# Altium schematic symbol library web.skorpio.SchLib: 147 symbols (part 2 of 2)
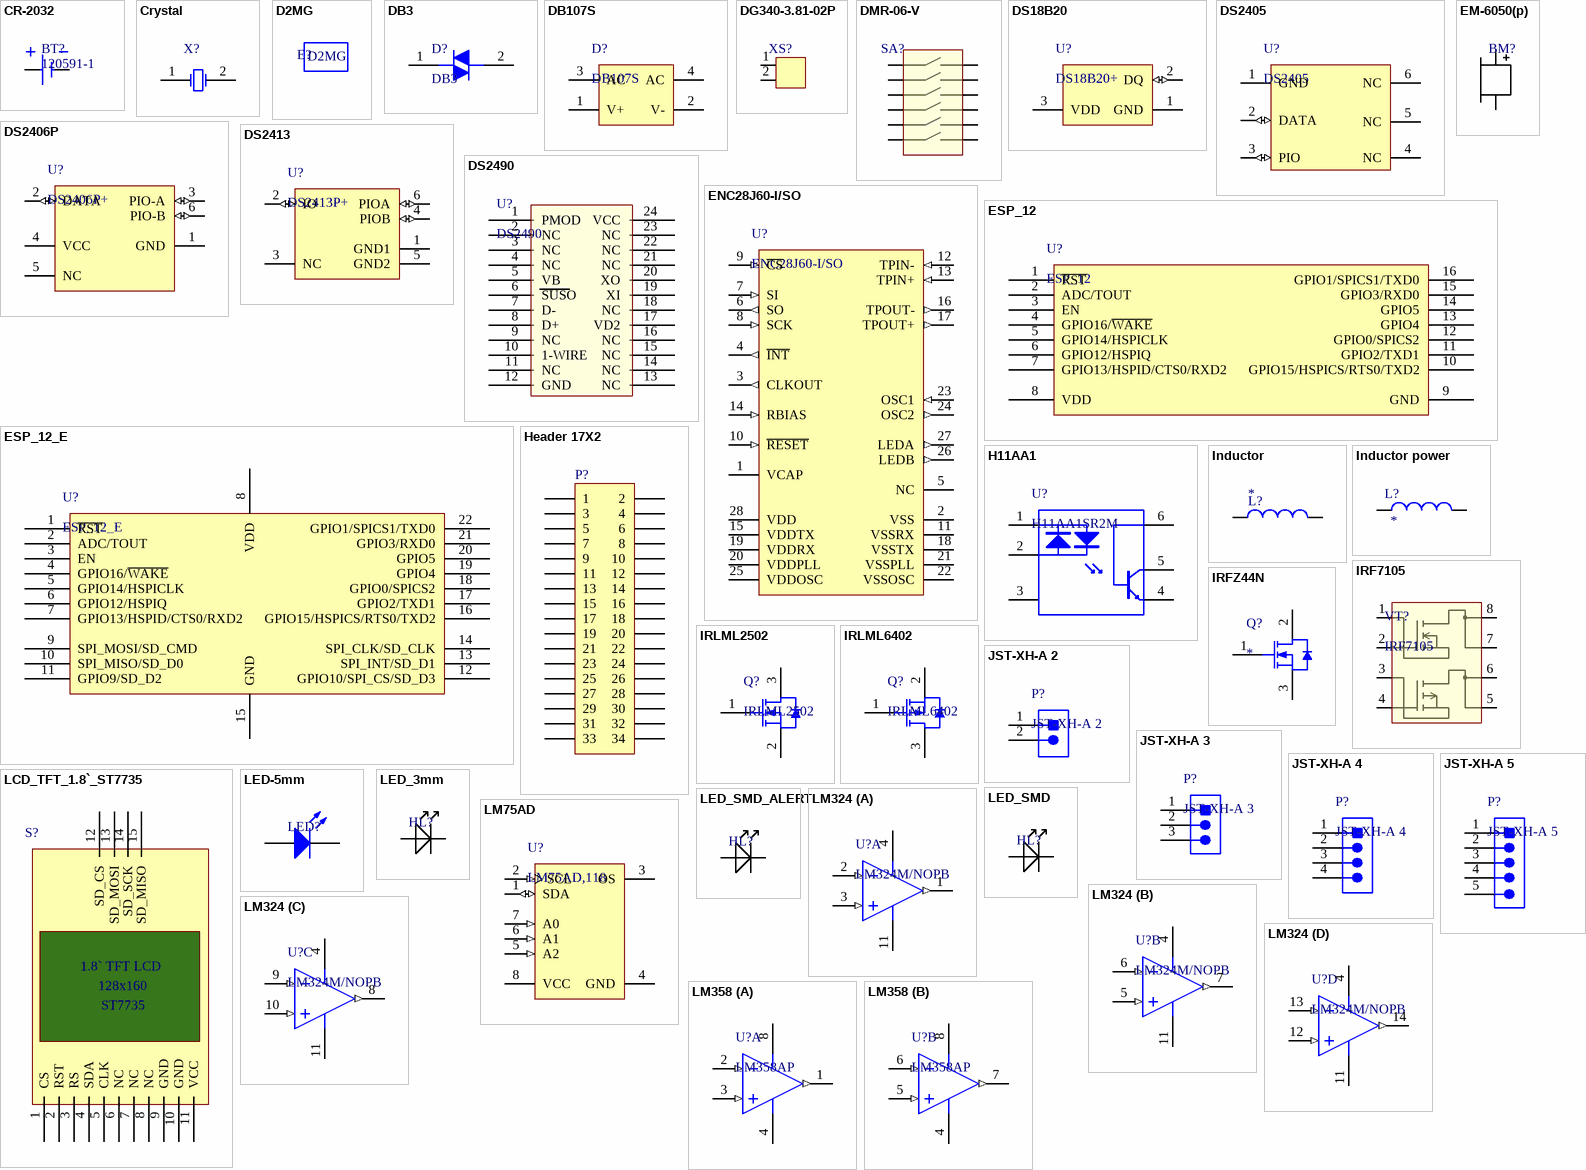
[diagram p5: symbols CR-2032 to LM358]

## LCD_TFT_1.8`_ST7735
designator S?
PartNumber: YMD-12095-G-6V; Manufacturer: Huakai Electronic; Soud Output: >=85 dB; Rated Current: <=32 mA; Resonant Freq: 2300 +/- 300 Hz; Operating Voltage: 4 to 8 V; Rated Voltage: 6 V; PackageDescription: 2-Pin THD, Dia 12 mm, Height 10 mm; Mounting Technology: Through Hole; ComponentLink3URL: å°è£…æ•°æ®ï¼š http://www.hongyan-e.com/web/fmq011.htm; PackageReference: YMD-12095-G-2; RoHS: TRUE; ComponentLink1Description: Manufacturer URL; Operating Temperature: -20 to 45 degC; ComponentLink2Description: Datasheet; ComponentLink1URL: http://www.xhhkdz.com/; ComponentLink3Description: URL Link1; ComponentLink2URL: http://www.xhhkdz.com/product/?103_688.html
footprint ST7735_1.8` TFT LCD
pins: 1 CS, 2 RST, 3 RS, 4 SDA, 5 CLK, 6 NC, 7 NC, 8 NC, 9 GND, 10 GND, 11 VCC, 12 SD_CS, 13 SD_MOSI, 14 SD_SCK, 15 SD_MISO
text: 1.8` TFT LCD; 128x160; ST7735

## LED-5mm
designator LED?
PartNumber: 151053RS03000; Manufacturer: Wuerth Elektronik; Emitting color: Red; PackageReference: Type 5mm; ComponentLink1URL: http://www.we-online.com; ComponentLink2Description: Datasheet; ComponentLink2URL: http://katalog.we-online.de/pbs/datasheet/7448042001.pdfhttp://katalog.we-online.de/pbs/datasheet/7448042001.pdfhttp://katalog.we-online.de/pbs/datasheet/7448042001.pdfhttp://katalog.we-online.de/pbs/datasheet/151053RS03000.pdf; ComponentLink1Description: Manufacturer URL
footprint LED-5mm (THT, LED-5mm, 2pin- Body 5.8mm)
pins: 1 K, 2 A

## LED_3mm
designator HL?  (value not drawn)
3mm red led
footprint LED_RED
pins: 1 anode, 2 cathode

## LED_SMD
designator HL?  (value not drawn)
0805 led
footprint 0805_LED (LED, 2-Leads, Body 2,00x1,20mm, IPC Medium Density)
footprint 1206_Led (Chip LED, 2-Leads, Body 3.2x1.6mm, IPC Medium Density)
footprint 5730_LED (Chip LED, 2-Leads, Body 3.2x1.6mm, IPC Medium Density)
pins: 1 anode, 2 cathode

## LED_SMD_ALERT
designator HL?  (value not drawn)
0805 led
footprint ALERT_0805_LED (LED, 2-Leads, Body 2,00x1,20mm, IPC Medium Density)
pins: 1 anode, 2 cathode

## LM75AD
designator U?, comment LM75AD,118
Digital Temperature Sensor and Thermal Watchdog, 2.8 to 5.5 V Supply, -55 to 125 degC, 8-Pin SOT96-1, RoHS, Tape & Reel; Manufacturer: NXP Semiconductors; Accuracy on-chip (degC): 2@-25 to 100 / 3@-55 to 125; Assignable addresses: 8; Code_IEC: 76000; ComponentLink2URL: http://www.nxp.com/documents/data_sheet/LM75A.pdf; ComponentLink1URL: http://www.nxp.com/; PartNumber: LM75AD,118; DatasheetVersion: Rev. 04; Mounting Technology: Surface Mount; Operating Voltage (VDC): 2.8 to 5.5; ComponentLink2Description: Datasheet; Packing: Tape & Reel; PackageDescription: 8-Pin Plastic Small Outline Package, Body 4.9 x 3.9 mm, Pitch 1.27 mm; Code_JEDEC: MS-012; ComponentLink3URL: http://www.nxp.com/documents/outline_drawing/sot096-1_po.pdf; PackageVersion: 03-02-18, 02/2003; PackageReference: SOT96-1; ComponentLink3Description: Package Specification; ComponentLink1Description: Manufacturer URL
footprint SOT96-1_N (Footprint not found)
footprint SOT96-1_L (Footprint not found)
footprint SOT96-1_M (Footprint not found)
pins: 1 SDA (io) "Digital I/O. I2C-bus serial bidirectional data line; open-drain.", 2 SCL (in) "Digital input. I2C-bus serial clock input.", 3 OS (oc) "Overtemp Shutdown output; open-drain.", 4 GND (power) "Ground. To be connected to the system ground.", 5 A2 (in) "Digital input. User-defined address bit 2.", 6 A1 (in) "Digital input. User-defined address bit 1.", 7 A0 (in) "Digital input. User-defined address bit 0.", 8 VCC (power) "Power supply."

## LM324
designator U?, comment LM324M/NOPB
Low Power Quad Operational Amplifier, 14-pin Narrow SOIC, Pb-Free; Manufacturer: Texas Instruments; PackageTopMarking: NSUZXYTTE#*LM324M; CompType: Amplifiers; PowerWise: N; ComponentLink1Description: Datasheet URL; Code_IPC: SOIC127P600-14; Package Reference: D0014A; PinCount: 14; ComponentLink1URL: http://www.ti.com/general/docs/lit/getliterature.tsp?genericPartNumber=LM324-N&fileType=pdf; Code_JEDEC: MS-012AB; PackageDescription: Molded Package S.O., .150in Wide, 14 Lead; RoHS: Y
footprint SO-14A_L (SOIC, 14-Leads, Body 8.75x4mm, Pitch 1.27mm, IPC High Density)
footprint SO-14A_M (SOIC, 14-Leads, Body 8.75x4mm, Pitch 1.27mm, IPC Low Density)
footprint SO-14A_N (SOIC, 14-Leads, Body 8.75x4mm, Pitch 1.27mm, IPC Medium Density)
pins on every part: 4 V+ (power), 11 GND (power)
part A pins: 1 OUT1 (out), 2 IN1- (in), 3 IN1+ (in)
part B pins: 5 IN2+ (in), 6 IN2- (in), 7 OUT2 (out)
part C pins: 8 OUT3 (out), 9 IN3- (in), 10 IN3+ (in)
part D pins: 12 IN4+ (in), 13 IN4- (in), 14 OUT4 (out)

## LM358
designator U?, comment LM358AP
Dual Operational Amplifier, 3 to 32 V, 0 to 70 degC, 8-Pin PDIP (P), Pb-Free (RoHS), Tube; Case\Package: 0603; Luminous Intensity: 90 mcd; Viewing Angle: 130 degrees; Nominal Vf: 2 V; Lens Style: Diffused; Illumination Colour: Orange; Power Rating: 75 mW; Forward Current: 20 mA; Pins: 2; ComponentLink3Description: Package Specification; Packaging: Tape and Reel; Mount: Surface Mount; PackageReference: P0008A; Radiation Hardening: No; ComponentLink3URL: http://www.ti.com/lit/ml/mpdi001b/mpdi001b.pdf; Case Code (Metric): 1608; ComponentLink2Description: Datasheet; Max Operating Temperature: 85 degC; ComponentLink1Description: Manufacturer URL; RoHSCompliant: true; Width: 0.8 mm; Length: 1.6 mm; DatasheetVersion: SLOS068T, 04/2015; Min Operating Temperature: -55 degC; Height: 1.1 mm; Colour: Orange; ComponentLink2URL: http://www.ti.com/lit/ds/symlink/lm358a.pdf; PackageDescription: 8-Pin Double In-line Package, Body 9.59 x 6.35 mm, Pitch 2.54 mm; PackageVersion: 4040082/E, 04/2010; Forward Voltage: 2 V; Package Quantity: 3000; Case Code (Imperial): 0603; ComponentLink1URL: http://www.ti.com/
footprint DIP8
footprint SOIC8 (SOIC, 8-Leads, Body 4,90x3,90mm, Pitch 1,27mm, IPC Medium Density)
pins on every part: 4 GND (power), 8 VCC (power)
part A pins: 1 1OUT (out), 2 1IN- (in), 3 1IN+ (in)
part B pins: 5 2IN+ (in), 6 2IN- (in), 7 2OUT (out)

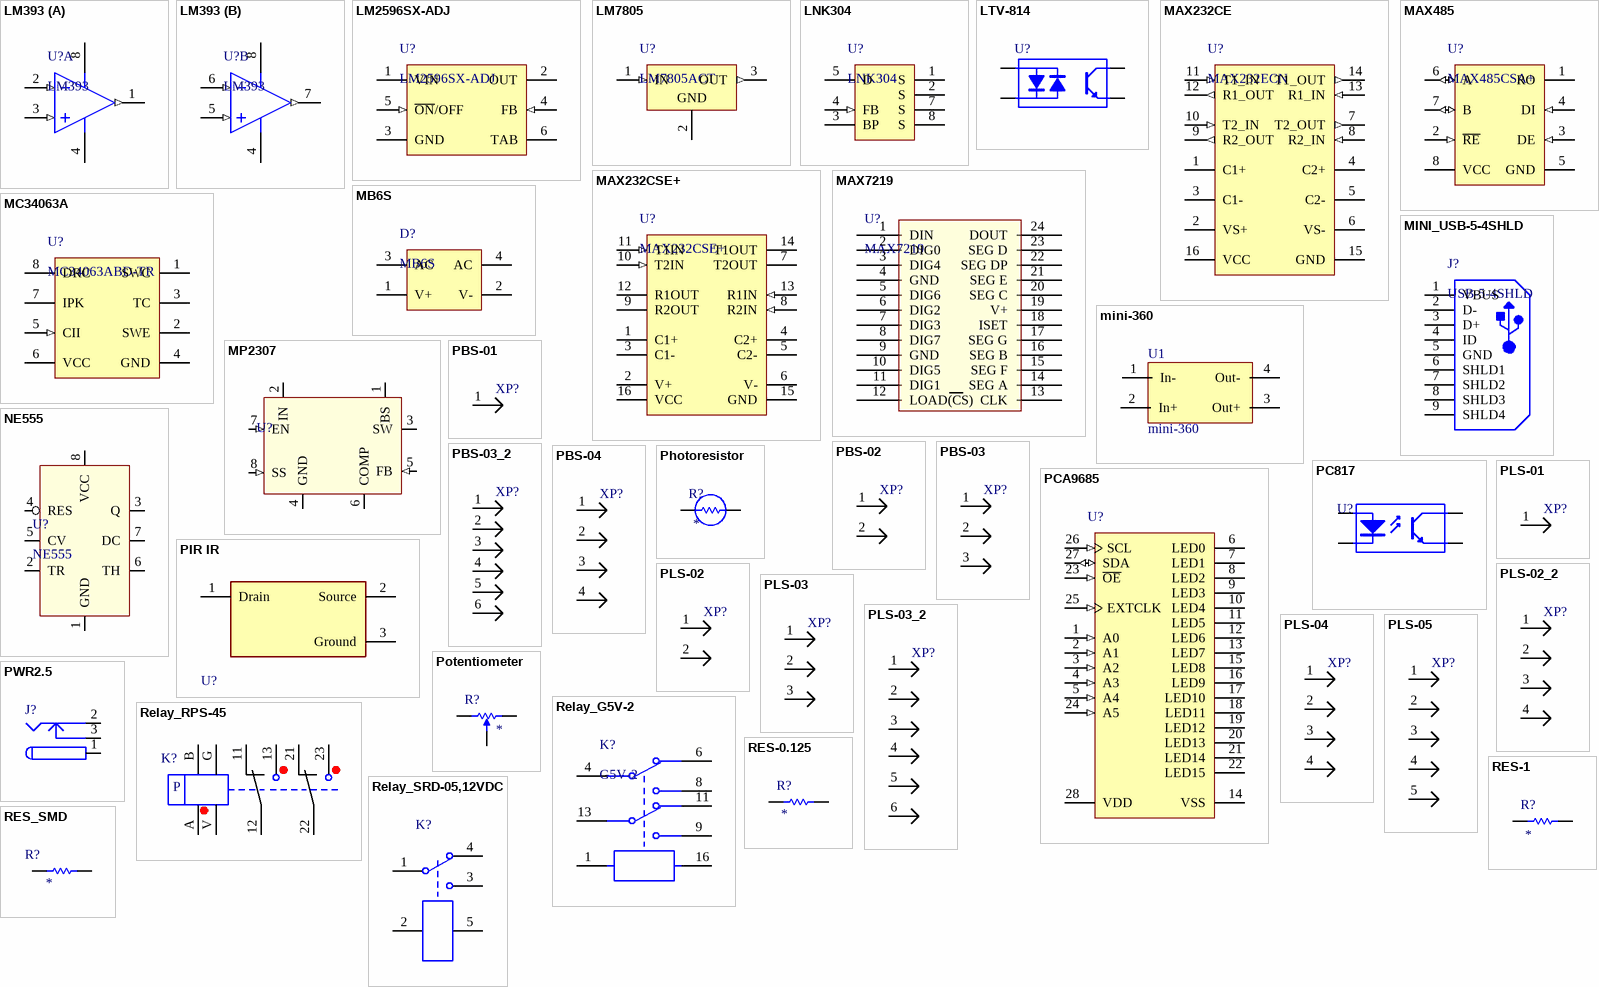
[diagram p3: symbols LM393 to RES_SMD]

## LM393
designator U?
Low Power Low Offset Voltage Dual Comparator, 8-pin Narrow SOIC, Pb-Free; Manufacturer: Texas Instruments; CompType: Amplifiers; PackageTopMarking: NSZXTT*LM*393M; PowerWise: N; PackageDescription: SOIC Narrow, 4.9 x 3.9 x 1.45mm, 8 Lead, 1.27mm Pitch; ComponentLink1URL: http://www.ti.com/general/docs/lit/getliterature.tsp?genericPartNumber=LM393-N&fileType=pdf; ComponentLink1Description: Datasheet URL; PinCount: 8; RoHS: Y; Code_IPC: SOIC127P600-8; Package Reference: D0008A; Code_JEDEC: MS-012-AA
footprint SO-8_N (SOIC, 8-Leads, Body 4.9x3.9mm, Pitch 1.27mm, IPC Medium Density)
footprint SO-8_L (SOIC, 8-Leads, Body 4.9x3.9mm, Pitch 1.27mm, IPC High Density)
footprint SO-8_M (SOIC, 8-Leads, Body 4.9x3.9mm, Pitch 1.27mm, IPC Low Density)
footprint DIP8
pins on every part: 4 GND (power), 8 V+ (power)
part A pins: 1 OUTA (out), 2 INA- (in), 3 INA+ (in)
part B pins: 5 INB+ (in), 6 INB- (in), 7 OUTB (out)

## LM2596SX-ADJ
designator U?
SIMPLE SWITCHER® Power Converter 150 KHz 3A Step-Down Voltage Regulator, 5-pin TO-263; Manufacturer: Texas Instruments; PackageTopMarking: NSUZXYTTE#*LM2596S*-ADJ P+; PowerWise: N; PackageDescription: TO-263, Molded, .400 x .390 x .180in, 5 Lead, .067in Pitch, Surface Mount; RoHS: N; Code_JEDEC: MO-169-AB; CompType: Switcher; ComponentLink1Description: Datasheet URL; PackageReference: KTT0005B; PinCount: 5; ComponentLink1URL: http://www.ti.com/general/docs/lit/getliterature.tsp?genericPartNumber=LM2596&fileType=pdf
footprint KTT0005B_N (DPAK, 5-Leads, Body 10.65x9.65mm, Pitch 1.7mm, IPC Medium Density)
footprint KTT0005B_M (DPAK, 5-Leads, Body 10.65x9.65mm, Pitch 1.7mm, IPC Low Density)
footprint KTT0005B_L (DPAK, 5-Leads, Body 10.65x9.65mm, Pitch 1.7mm, IPC High Density)
pins: 1 VIN (power), 2 OUT (power), 3 GND (power), 4 FB (in), 5 ~{ON}/OFF (in), 6 TAB (power)

## LM7805
designator U?, comment LM7805ACT
Positive Voltage Regulator, 5 V, 1 A, 0 to 125 degC, 3-Pin TO-220, RoHS, Tube; Manufacturer: Fairchild; Number of Outputs: 1; Typical Dropout Voltage @ Current: 2V@1A; Output Type: Fixed; Output Voltage: 5V; Quiescent Current: 6mA; Dropout Voltage Measurement Current: 1A; Line Regulation: 50mV; Maximum Input Voltage: 35V; Regulator Function: Linear; Load Regulation: 100mV; Package Type: TO-220; Mounting Type: ThroughHole; Height: 16.51mm; Maximum Operating Temperature: +125degC; Datasheet Version: Rev. 1.0.1, 05/2006; Package Reference: TO-220; Minimum Operating Temperature: 0degC; Manufacturer URL: https://www.fairchildsemi.com/; Package URL: https://www.fairchildsemi.com/package-drawings/TO/TO220B03.pdf; Length: 10.67mm; Series: LM78xx; Dimensions: 10.67x4.83x16.51mm; Polarity: Positive; Maximum Output Current: 1A; Pin Count: 3; Width: 4.83mm; Package Description: 3-Pin Through Hole Device, Body 10 x 4.5 mm, Pitch 2.54 mm; Datasheet URL: https://datasheet.ciiva.com/5816/1359194-5816420.pdf
footprint TO-220 (FM, 3-Leads, Body 10.2x4.7mm, Pitch 2.54mm)
footprint TO252-3 (D-PAK, 3-Leads, Body 6.20x6.60mm, Pitch 2.28mm)
pins: 1 IN (in), 2 GND (power), 3 OUT (out)

## LNK304
designator U?
LinkSwitch(R)-TN Family Lowest Component Count, Energy-Efficient Off-Line Switcher IC, 700 V, 66 KHz, 7-Pin DIP, RoHS, Tube; Manufacturer: Power Integrations; Power (Watts): 12mW; For Use With: 596-1197-ND / -KITREFDESIGN1.2WPSTNFAMILY; Other Names: 596-1023-5; Online Catalog: ACDCConverters,OfflineSwitchers; Output Isolation: Non-Isolated; Reference Design Library: DAK-48A:1.44W,12V@120mA,85~265VAC / RDK-138:1.2W,12V@80mA,5V@50mA,85~265VAC / DER-058:12V@250mA,57~580VACin / DER-048:12V@100mA/15V@25mA,85~265VACin / DER-231:12V@110mA,85~265VACin / DER-045:12V@150mA,85~265VACin; Frequency Range: 62kHz~70kHz; Voltage - Breakdown: 700V; Manufacturer URL: https://www.power.com/; Supplier Device Package: DIP-8B; Series: LinkSwitch-TN; Voltage - Output: -; Packaging: Tube; Voltage - Input: -; Category: IntegratedCircuits(ICs); Package / Case: 8-DIP(0.300",7.62mm),7Leads; Datasheet Version: Rev. H, 12/2006; Family: PMIC-ACDCConverters,OfflineSwitchers; Dynamic Catalog: ACDCConverters,OfflineSwitchers; Standard Package: 50; Datasheet URL: https://datasheet.ciiva.com/16982/0900766b80b7c715-16982632.pdf; Operating Temperature: -40degC~150degC
footprint LNK304PN (DIP, 7-Leads, Body 6.6x9.85mm, Pitch 2.54mm)
footprint LNK304PG (SMD, 7-Leads, Body 9.575x6.35mm)
pins: 1 S, 2 S, 3 BP, 4 FB (in), 5 D, 7 S, 8 S

## LTV-814
designator U?
4-Pin Phototransistor Optocoupler; Published: 24-Mar-1999; LatestRevisionDate: 04-Mar-2005; LatestRevisionNote: Sch pins 3 & 4 Swapped.; DatasheetVersion: Nov-2003; PackageReference: DIP-4; Publisher: Altium Limited
footprint DIP-4 - point (DIP; 4 Leads; Row Spacing 7.62 mm; Pitch 2.54 mm)
pins: 1 A "Anode", 2 K "Cathode", 3 E "Emitter", 4 C "Collector"

## MAX232CE
designator U?, comment MAX232ECN
Dual RS-232 Driver / Receiver with IEC61000-4-2 Protection, 0 to 70 degC, 16-Pin PDIP (N),  Pb-Free (RoHS); Drivers Per Package: 2; Supply Voltage(s)(V): 5; Single Supply: TRUE; ESD HBM(kV): +/-15; ICC(Max)(mA): 10; PackageVersion: revE, Dec-2002; ComponentLink3URL: http://www.ti.com/litv/pdf/mpdi002c; ComponentLink3Description: Package Specification; DatasheetVersion: SLLS723B; Receivers Per Package: 2; ComponentLink1Description: Manufacturer URL; RS-232: TRUE; PackageReference: N16; PackageDescription: 16-Pin Plastic Dual-In-Line Package, Row Spacing 7.62 mm, Pitch 2.54 mm; ComponentLink2Description: Datasheet; ComponentLink2URL: http://www.ti.com/general/docs/lit/getliterature.tsp?genericPartNumber=MAX232E&fileType=pdf; SubFamily: RS-232; ComponentLink1URL: www.ti.com; IEC-61000-4-2 SUPPORT: TRUE
footprint DIP16
footprint SO-16_M (SOIC, 16-Leads, Body 9.9x3.9mm, Pitch 1.27mm, IPC Low Density)
pins: 1 C1+, 2 VS+ (power), 3 C1-, 4 C2+, 5 C2-, 6 VS- (power), 7 T2_OUT (out), 8 R2_IN (in), 9 R2_OUT (out), 10 T2_IN (in), 11 T1_IN (in), 12 R1_OUT (out), 13 R1_IN (in), 14 T1_OUT (out), 15 GND (power), 16 VCC (power)

## MAX232CSE+
designator U?
Multichannel RS-232 Driver / Receiver, 5 V, 0 to 70 degC, 16-Pin SOIC (S16+3), RoHS, Tube; Power Rating: 100 mW; Case\Package: 0603; Voltage Rating: 75 V; Tolerance: 1%; Resistance: 22 Ohm; Radiation Hardening: No; PackageDescription: 16-Pin Small Outline Integrated Circuit, Body 9.9 x 3.9 mm, Pitch 1.27 mm; Weight: 7.1E-05 oz; REACH SVHC: Yes; ComponentLink2URL: https://datasheets.maximintegrated.com/en/ds/MAX220-MAX249.pdf; ComponentLink2Description: Datasheet; Case Code (Imperial): 0603; Package Quantity: 5000; Min Operating Temperature: -55 degC; Case Code (Metric): 1608; Code_JEDEC: MS012; ComponentLink3URL: http://pdfserv.maximintegrated.com/package_dwgs/21-0041.PDF; Max Operating Temperature: 155 degC; Height: 0.45 mm; PackageVersion: Rev. G, 01/2016; PackageReference: S16+5; DatasheetVersion: Rev. 17, 01/2015; ComponentLink1URL: http://www.maximintegrated.com/; Length: 1.6 mm; Mount: Surface Mount; ComponentLink1Description: Manufacturer URL; RoHSCompliant: true; Packaging: Tape and Reel; ComponentLink3Description: Package Specification; Width: 0.8 mm; Pins: 2
footprint SO-16_L (SOIC, 16-Leads, Body 9.9x3.9mm, Pitch 1.27mm, IPC High Density)
footprint SO-16_M (SOIC, 16-Leads, Body 9.9x3.9mm, Pitch 1.27mm, IPC Low Density)
footprint SO-16_N (SOIC, 16-Leads, Body 9.9x3.9mm, Pitch 1.27mm, IPC Medium Density)
pins: 1 C1+, 2 V+ (power), 3 C1-, 4 C2+, 5 C2-, 6 V- (power), 7 T2OUT (hiz), 8 R2IN (in), 9 R2OUT (hiz), 10 T2IN (in), 11 T1IN (in), 12 R1OUT (hiz), 13 R1IN (in), 14 T1OUT (hiz), 15 GND (power), 16 VCC (power)

## MAX485
designator U?, comment MAX485CSA+
Low-Power, Slew-Rate-Limited RS-485/RS-422 Transceiver, 4.75 to 5.25 V, 0 to 70 degC, 8-Pin SOIC, RoHS, Tape and Reel; Manufacturer: Maxim; No. of Receivers: 1; Transceiver Type: Differential; Supply Voltage Min: 4.75V; IC Generic Number: 485; IC Temperature Range: Commercial; No. of Pins: 8; Supply Voltage Range: 4.75Vto5.25V; Interface: RS-422/RS-485; Supply Voltage Max: 5.25V; Data Rate: 2.5Mbps; Line / Bus Driver / Receiver / Transceiver Type: CMOSDifferential; Supply Current: 500µA; Interface Type: RS422,RS485; Device Type: Transceiver; Manufacturer URL: http://www.maximintegrated.com/; Operating Temperature Range: 0degCto+70degC; Package / Case: SOIC; Digital IC Case Style: SOIC; Operating Temperature Max: 70degC; Device Marking: MAX485CSA+; Driver Case Style: SOIC; Datasheet Version: Rev. 8, 10/2003; Operating Temperature Min: 0degC; Datasheet URL: https://datasheet.ciiva.com/29306/170071-da-01-en-ic-max485csa-so8-29306144.pdf; Base Number: 485; No. of Drivers: 1; Logic Function Number: 485
footprint SOT96-1_L (SOIC, 8-Leads, Body 5x4mm, Pitch 1.27mm, IPC High Density)
footprint SOT96-1_M (SOIC, 8-Leads, Body 5x4mm, Pitch 1.27mm, IPC Low Density)
footprint SOT96-1_N (SOIC, 8-Leads, Body 5x4mm, Pitch 1.27mm, IPC Medium Density)
footprint DIP8
pins: 1 RO (hiz) "Receiver Output", 2 ~{RE} (in) "Receiver Output Enable", 3 DE (in) "Driver Output Enable", 4 DI (in) "Driver Input", 5 GND (power) "Ground", 6 A (io) "Noninverting Receiver Input and Noninverting Driver Output", 7 B (io) "Inverting Receiver Input and Inverting Driver Output", 8 VCC (power) "Positive Supply"

## MAX7219
designator U?
MAX7219, SO-24, DIP-24
footprint SOIC-24/300 (SOIC, 24-Leads, Pitch 1,27mm)
footprint DIP24
pins: 1 DIN, 2 DIG0, 3 DIG4, 4 GND, 5 DIG6, 6 DIG2, 7 DIG3, 8 DIG7, 9 GND, 10 DIG5, 11 DIG1, 12 LOAD(CS), 13 CLK, 14 SEG A, 15 SEG F, 16 SEG B, 17 SEG G, 18 ISET, 19 V+, 20 SEG C, 21 SEG E, 22 SEG DP, 23 SEG D, 24 DOUT

## MB6S
designator D?
Bridge Rectifier, 0.5 A, 600V -55 to 150 degC, 4-Pin SMD, RoHS, Tape and Reel; Manufacturer: FairchildSemiconductor; Peak Average Forward Current: 0.5@Ta=50CA; Peak Reverse Current: 5uA; Peak Forward Voltage: 1V; Bridge Type: SinglePhase; Configuration: Single; Rad Hard: No; Manufacturer URL: https://www.fairchildsemi.com/; Category: BridgeRectifier; Packaging: Tape&Reel; Operating Temperature: -55to150°C; Package Description: 4-Pin Surface Mount Device, Body 4.725 x 3.9 mm, Pitch 2.54 mm; Peak Reverse Repetitive Voltage: 600V; Package Reference: MBXS; Datasheet URL: http://www.fairchildsemi.com/datasheets/MB/MB1S.pdf; Mounting: SurfaceMount; Datasheet Version: Rev. 1.2.3, 04/2014; Mounting Technology: SurfaceMount; Package: 4SOICN
footprint MB6S (SMD, 4-Leads, Body 4.725x3.9mm, Pitch 2.54mm)
pins: 1 V+ (power), 2 V- (power), 3 AC (power), 4 AC (power)

## MC34063A
designator U?, comment MC34063ABD-TR
DC/DC converter control circuit, 8-Pin SO, Tape and Reel; PackageReference: SO8; DatasheetVersion: Nov-2007; PackageDescription: 8-Pin Small Outline Integrated Circuit 1.27 mm Pitch; ComponentLink3URL: http://www.st.com/internet/com/TECHNICAL_RESOURCES/TECHNICAL_LITERATURE/PACKAGE_INFORMATION/CD00004680.pdf; ComponentLink2Description: Datasheet; PackageVersion: Dec-2002; ComponentLink1URL: http://www.st.com; ComponentLink2URL: http://www.st.com/internet/com/TECHNICAL_RESOURCES/TECHNICAL_LITERATURE/DATASHEET/CD00001232.pdf; ComponentLink1Description: Manufacturer URL; ComponentLink3Description: Package Specification; Code_IPC: SOIC127P600-8; Code_JEDEC: MS-012-AA
footprint SO-8_L (SOIC, 8-Leads, Body 4.9x3.9mm, Pitch 1.27mm, IPC High Density)
footprint SO-8_N (SOIC, 8-Leads, Body 4.9x3.9mm, Pitch 1.27mm, IPC Medium Density)
footprint SO-8_M (SOIC, 8-Leads, Body 4.9x3.9mm, Pitch 1.27mm, IPC Low Density)
pins: 1 SWC (oc), 2 SWE (oe), 3 TC, 4 GND (power), 5 CII (in), 6 VCC (power), 7 IPK, 8 DRC (oc)

## mini-360
designator U1
Step-down DC-DC 3A
footprint Mini-360 (4-pin, Body 18x12mm)
pins: 1 In- (power), 2 In+ (power), 3 Out+ (power), 4 Out- (power)

## MINI_USB-5-4SHLD
designator J?, comment USB-5-4SHLD
footprint MINI-USB_2.0 (SMD, 5-Leads, Body 9.6x9.25mm, Pitch 0.8mm)
pins: 1 VBUS (power), 2 D-, 3 D+, 4 ID, 5 GND (power), 6 SHLD1, 7 SHLD2, 8 SHLD3, 9 SHLD4

## MP2307
designator U?
Monolithic synchronous buck regulator
footprint SOIC8N
pins: 1 BS "Gate Drive Boost Input", 2 IN "Power Input", 3 SW "Power Switching Output", 4 GND "Ground", 5 FB (in) "Feedback Input", 6 COMP "Compensation Node", 7 EN (in) "Enable Input", 8 SS (in) "Soft-Start Control Input"

## NE555
designator U?
NE555, DIP-8
footprint DIP8
footprint SOIC8 (SOIC, 8-Leads, Body 4,90x3,90mm, Pitch 1,27mm, IPC Medium Density)
pins: 1 GND, 2 TR, 3 Q, 4 RES, 5 CV, 6 TH, 7 DC, 8 VCC

## PBS-01
designator XP?  (value not drawn)
footprint PBS-01 - RIGHT
footprint PBS-01
pins: 1

## PBS-02
designator XP?  (value not drawn)
footprint PBS-02
footprint PBS-02 - RIGHT
pins: 1, 2

## PBS-03
designator XP?  (value not drawn)
footprint PBS-03
footprint PBS-03 - RIGHT
pins: 1, 2, 3

## PBS-03_2
designator XP?  (value not drawn)
footprint PBS-03_2
pins: 1, 2, 3, 4, 5, 6

## PBS-04
designator XP?  (value not drawn)
footprint PBS-04
footprint PBS-04 - right
pins: 1, 2, 3, 4

## PC817
designator U?
4-Pin Phototransistor Optocoupler; Published: 24-Mar-1999; LatestRevisionDate: 04-Mar-2005; LatestRevisionNote: Sch pins 3 & 4 Swapped.; DatasheetVersion: Nov-2003; PackageReference: DIP-4; Publisher: Altium Limited
footprint DIP-4 - point (DIP; 4 Leads; Row Spacing 7.62 mm; Pitch 2.54 mm)
footprint DIP-4 - SMT (DIP; 4 Leads; Row Spacing 7.62 mm; Pitch 2.54 mm)
pins: 1 A "Anode", 2 K "Cathode", 3 E "Emitter", 4 C "Collector"

## PCA9685
designator U?, comment PCA9685PW,112  (value not drawn)
16-Channel, 12-Bit PWM Fm+ I2C-Bus LED Controller, 2.3 to 5.5 V, -40 to 85 degC, 28-Pin TSSOP (SOT361-1), RoHS, Tape and Reel; ComponentLink1Description: Manufacturer URL; ComponentLink2URL: http://www.nxp.com/documents/data_sheet/PCA9685.pdf; ComponentLink1URL: http://www.nxp.com/; ComponentLink3Description: Package Specification; ComponentLink2Description: Datasheet; ComponentLink3URL: http://www.nxp.com/documents/outline_drawing/sot361-1_po.pdf
footprint SOT361-1_V (SOP, 28-Leads, Body 9.7x4.4mm, Pitch 0.65mm, NXP Recommended)
pins: 1 A0 (in) "address input 0", 2 A1 (in) "address input 1", 3 A2 (in) "address input 2", 4 A3 (in) "address input 3", 5 A4 (in) "address input 4", 6 LED0 (hiz) "LED driver 0", 7 LED1 (hiz) "LED driver 1", 8 LED2 (hiz) "LED driver 2", 9 LED3 (hiz) "LED driver 3", 10 LED4 (hiz) "LED driver 4", 11 LED5 (hiz) "LED driver 5", 12 LED6 (hiz) "LED driver 6", 13 LED7 (hiz) "LED driver 7", 14 VSS (power) "supply ground", 15 LED8 (hiz) "LED driver 8", 16 LED9 (hiz) "LED driver 9", 17 LED10 (hiz) "LED driver 10", 18 LED11 (hiz) "LED driver 11", 19 LED12 (hiz) "LED driver 12", 20 LED13 (hiz) "LED driver 13", 21 LED14 (hiz) "LED driver 14", 22 LED15 (hiz) "LED driver 15", 23 ~{OE} (in) "active LOW output enable", 24 A5 (in) "address input 5", 25 EXTCLK (in) "external clock input", 26 SCL (in) "serial clock line", 27 SDA (io) "serial data line", 28 VDD (power) "supply voltage"

## Photoresistor
designator R?
RES-1; Val: *
footprint Photoresistor
pins: 1, 2

## PIR IR
designator U?
MOTION SENSOR; Manufacturer Part Number: IRA-S210ST01; Manufacturer: Murata; Min Supply Voltage: 2V; Max Supply Voltage: 15V; Device Class L3: Photoelectric Sensors; Package: IRA-S210ST01; Temperature Range Low: -40°C; Temperature Range High: +70°C; ComponentLink2Description: Datasheet; Category: IC; ComponentLink2URL: https://www.murata.com/en-us/api/pdfdownloadapi?cate=luInfraredSensors&partno=IRA-S210ST01; Digikey Description: MOTION SENSOR; Octopart: https://octopart.com/ira-s210st01-murata-30987376; Temperature: -40°C to +70°C; Lead Free: Yes; Automotive: No; RoHS: TRUE; Device Class L1: Sensors; Height: 4.9mm; Device Class L2: Optical Sensors
footprint PIR_IR
pins: 1 Drain, 2 Source, 3 Ground (power)

## PLS-01
designator XP?  (value not drawn)
footprint PLS-01
footprint PLS-01 - RIGHT
pins: 1

## PLS-02
designator XP?  (value not drawn)
footprint PLS-02
footprint PLS-02 - RIGHT
pins: 1, 2

## PLS-02_2
designator XP?  (value not drawn)
footprint PLS-02_2
pins: 1, 2, 3, 4

## PLS-03
designator XP?  (value not drawn)
footprint PLS-03
footprint PLS-03 - RIGHT
pins: 1, 2, 3

## PLS-03_2
designator XP?  (value not drawn)
footprint PLS-03_2
pins: 1, 2, 3, 4, 5, 6

## PLS-04
designator XP?  (value not drawn)
footprint PLS-04
footprint PLS-04 - right
pins: 1, 2, 3, 4

## PLS-05
designator XP?  (value not drawn)
footprint PLS-05
footprint PLS-05 - right
pins: 1, 2, 3, 4, 5

## Potentiometer
designator R?, comment 3296W  (value not drawn)
3296 - 3/8 ” Square Trimpot(R) Trimming Potentiometer,, +/- 10%, 0.5 W, -55 to 125 degC, 3-Pin THD, RoHS, Tube; Value: *
footprint BOUR-3296W (THD, 3-Leads, Body 9.53x4.83mm, Pitch 2.54mm)
pins: 1, 2, 3

## PWR2.5
designator J?
Low Voltage Power Supply Connector; Published: 17-Dec-2003; DatasheetDocument: 09-May-2002; Publisher: Altium Limited; ComponentLink1Description: Manufacturer Link; ComponentLink1URL: http://domino.kycon.com/internet/Products.html
footprint KLD-0202 (DC Power Jack, 2.5mm, KLD Series, PCB Mount)
pins: 1 (power), 1A (power), 1B (power), 2 (power), 2A (power), 2B (power), 3 (power), 3A (power), 3B (power)

## Relay_G5V-2
designator K?, comment G5V-2
General-Purpose, Low-Cost, Two-Pole Relay for Signal Circult, 5 VDC, -25 to 70 degC, 8-Pin THD, RoHS, Tube; Manufacturer: Omron Electronic Components; Seal: Sealed; Dropout Volt: 0.25VDC; Product Depth (mm): 10.1mm; Contact Form: 2FormC; Rad Hardened: No; Product Length (mm): 20.5mm; DELETED: Compliant; Voltage Rating (VAC): 125V; Contact Current Rating: 1A; Product Height (mm): 11.5mm; Maximum Power Rating: 24W/62.5VA; Pick-up Voltage (Max): 2.75VDC; Relay Construction: Non-Latching; Contact Arrangement: DPDT; Coil Resistance: 166.7ohm; Operate Time: 7ms; Coil Current: 30mA; Coil Voltage DC: 5V; Contact Material: Ag/AuClad; Operating Temp Range: -25Cto70C; Datasheet URL: https://datasheet.ciiva.com/26921/getdatasheetpartid-762786-26921067.pdf; Dropout Volt (Min): 0.25VDC; Pin Count: 8; Termination Style: PCPin; Manufacturer URL: http://www.omron.com/; Package Reference: G5V-2; Coil Suppression Diode: No; Mounting Style: ThroughHole; Voltage Rating (VDC): 125V; Type: SignalRelay; Package / Case: DIP; Push To Test Button: No; Datasheet Version: 07/2012; Package Description: 8-Pin Through Hole Device, Body 20.38 x 10.02 mm; LED Indicator: No; Mounting Technology: ThroughHole
footprint OMRON-G5V-2_V (THD, 8-Leads, Body 20.38x10.02mm)
pins: 1, 4, 6, 8, 9, 11, 13, 16

## Relay_RPS-45
designator K?
Manufacturer: Panasonic; Approval Bodies: CSA/TUV/UL; Switch Current Max: 10A; Coil Current: 53.3mA; Contact Current Max: 15A; DC Coil Power: 640mW; Contact Configuration: SPDT; SVHC: NoSVHC(19-Dec-2012); Relay Type: Power; Release Time: 10ms; No. of Poles: 1; Coil Operating Lower Percent Limit: 53%; Coil Resistance: 225ohm; Coil Voltage VDC Nom: 12V; PCB Hole Diameter: 1.3mm; External Length / Height: 22mm; Contact Voltage DC Max: 16V; Coil Operating Upper Percent Limit: 133%; Relay Mounting: ThroughHole; External Width: 16.4mm; Coil Type: DC; External Depth: 16mm; Mounting Technology: ThroughHole; Series: JS-M; Operating Temperature Max: 85°C; Contact Current AC Max: 15A; Manufacturer URL: http://www.panasonic.com/; Package Reference: JSM1-12V-5; Mounting Type: PCB; Nom Operating Power: 640mW; Package Description: 5-Pin Throuhe Hole Device, Body 22 x 16 mm; Contact Current Min: 15A; Operating Temperature Min: -40°C; Operating Time: 10ms; Contact Current DC Max: 15A; Contact Material: SilverAlloy; Datasheet URL: https://datasheet.ciiva.com/14146/pxjs-m-relays-data-e-14146481.pdf; Switching Current Max: 10A; Contact Voltage DC Nom: 16V; External Height: 22mm; Datasheet Version: 05/2007
pins: 11, 12, 13, 21, 22, 23, A, B, G, V
text: P

## Relay_SRD-05,12VDC
designator K?
Manufacturer: Panasonic; Approval Bodies: CSA/TUV/UL; Switch Current Max: 10A; Coil Current: 53.3mA; Contact Current Max: 15A; DC Coil Power: 640mW; Contact Configuration: SPDT; SVHC: NoSVHC(19-Dec-2012); Relay Type: Power; Release Time: 10ms; No. of Poles: 1; Coil Operating Lower Percent Limit: 53%; Coil Resistance: 225ohm; Coil Voltage VDC Nom: 12V; PCB Hole Diameter: 1.3mm; External Length / Height: 22mm; Contact Voltage DC Max: 16V; Coil Operating Upper Percent Limit: 133%; Relay Mounting: ThroughHole; External Width: 16.4mm; Coil Type: DC; External Depth: 16mm; Mounting Technology: ThroughHole; Series: JS-M; Operating Temperature Max: 85°C; Contact Current AC Max: 15A; Manufacturer URL: http://www.panasonic.com/; Package Reference: JSM1-12V-5; Mounting Type: PCB; Nom Operating Power: 640mW; Package Description: 5-Pin Throuhe Hole Device, Body 22 x 16 mm; Contact Current Min: 15A; Operating Temperature Min: -40°C; Operating Time: 10ms; Contact Current DC Max: 15A; Contact Material: SilverAlloy; Datasheet URL: https://datasheet.ciiva.com/14146/pxjs-m-relays-data-e-14146481.pdf; Switching Current Max: 10A; Contact Voltage DC Nom: 16V; External Height: 22mm; Datasheet Version: 05/2007
footprint PNSC-JSM1-12V-5_V (THD, 5-Leads, Body 22x16mm)
pins: 1 COM, 2, 3 N.O., 4 N.C., 5

## RES-0.125
designator R?
RES-0.125; Val: *
footprint RES-0.125
pins: 1, 2

## RES-1
designator R?
RES-1; Val: *
footprint RES-1
pins: 1, 2

## RES_SMD
designator R?
Val: *
footprint RES0805 (Chip Resistor, 2-Leads, Body 2,00x1,20mm, IPC Medium Density)
footprint RESC1210(3225)_N (Chip Resistor, Body 3.2x2.5mm, IPC Medium Density)
footprint RESC1206(3216)_L (Chip Resistor, Body 3.2x1.6mm, IPC High Density)
footprint RES0603
pins: 1, 2

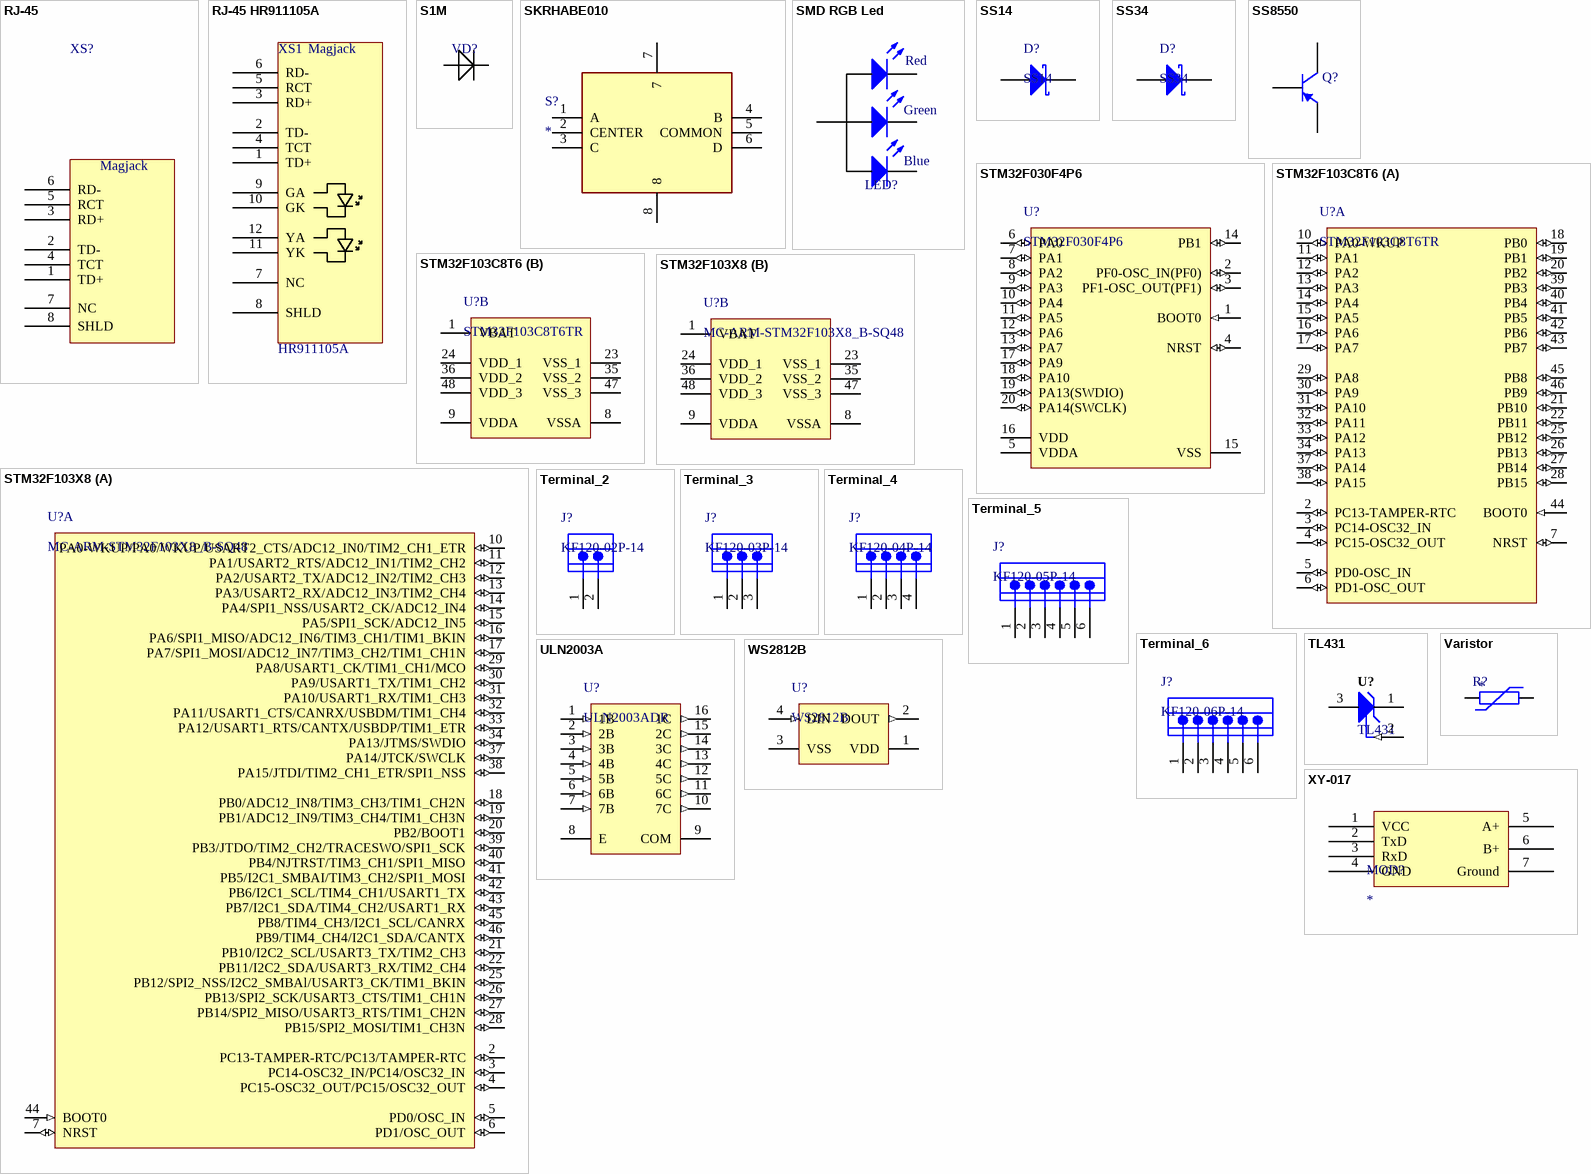
[diagram p4: symbols RJ-45 to XY-017]

## RJ-45
designator XS?
Value: HR911105A; Order: HR911105A
footprint rj-45 (Magjack)
pins: 1 TD+, 2 TD-, 3 RD+, 4 TCT, 5 RCT, 6 RD-, 7 NC, 8 SHLD
text: Magjack

## RJ-45 HR911105A
designator XS1, comment HR911105A
Value: HR911105A; Order: HR911105A
footprint HR911105A (Magjack)
pins: 1 TD+, 2 TD-, 3 RD+, 4 TCT, 5 RCT, 6 RD-, 7 NC, 8 SHLD, 9 GA, 10 GK, 11 YK, 12 YA
text: Magjack

## S1M
designator VD?  (value not drawn)
S1M, DO-214
footprint DO-214 (Molded Diode, 2-Leads, Body 5,10x2,67mm, IPC Medium Density)
footprint DO-41
pins: 1 cathode, 2 anode

## SKRHABE010
designator S?
Switch; Manufacturer_Name: ALPS; Manufacturer_Part_Number: SKRHABE010; Datasheet Link: https://www.alps.com/prod/info/E/PDF/MultiControl/Switch/SKRH.pdf; Height: 5mm; Mouser Part Number: 688-SKRHAB; Mouser Price/Stock: https://www.mouser.co.uk/ProductDetail/ALPS/SKRHABE010?qs=seHrhfPpLDxEOwRqoDvYHw%3D%3D; Arrow Part Number: SKRHABE010; Arrow Price/Stock: https://www.arrow.com/en/products/skrhabe010/alps-electric
footprint SKRHABE010
pins: 1 A, 2 CENTER, 3 C, 4 B, 5 COMMON, 6 D, 7, 8

## SMD RGB Led
designator LED?
SMD RGB LED; PartNumber: 150141RV73100; Manufacturer: Wuerth Elektronik; Color: Red & Bright Green; ComponentLink1Description: Manufacturer URL; ComponentLink2Description: Datasheet; ComponentLink2URL: http://katalog.we-online.com/led/datasheet/150141RV73100.pdf; ComponentLink1URL: http://www.we-online.com; PackageReference: 3528_A
footprint 3528 (Chip LED, 4-Leads, Body 2.8x3.5mm (max), Pitch 1.42mm, IPC Medium Density)
pins: 1 Red, 2 Green, 3 Blue, 4 +
1 alternate drawing of the same symbol

## SS14
designator D?
Schottky Rectifier, 1.1 W, -65 to 125 degC, 2-Pin SMD, RoHS, Tape and Reel; Manufacturer: Fairchild; Configuration: SINGLE; Diode Element Material: SILICON; Power Dissipation Limit-Max (W): 1.1; Additional Feature: FREEWHEELINGDIODE; Signal Diode Type: SIGNALDIODE; Number of Elements: 1; JEDEC-95 Code: DO-214AC; Rep Pk Reverse Voltage-Max (V): 40; Package Body Material: PLASTIC/EPOXY; CAGE Code: 1HBD3,07933,59621,7D893; Peak Reflow Temperature (Cel): 260; Package Shape: RECTANGULAR; Manufacturer URL: https://www.fairchildsemi.com/; JESD-97 Code: e3; Package Reference: DO-214AC-2; RoHS Compliant: YES; Package Description: 2-Pin Surface Mount Device, Body 4.375 x 2.725 mm; Technology: SCHOTTKY; Surface Mount: YES; Datasheet URL: http://www.onlinecomponents.com/datasheet/ss14.aspx?p=11369800; Terminal Form: CBEND; Package Style: SMALLOUTLINE; Number of Terminals: 2; JESD-30 Code: R-PDSO-C2; Average Forward Current-Max (A): 1; Terminal Finish: MATTETIN; Datasheet Version: Oct-13; Terminal Position: DUAL; Package URL: https://www.fairchildsemi.com/package-drawings/DO/DO214AC.pdf; Moisture Sensitivity Level: 1; Lead Free: YES
footprint DO-214 (Molded Diode, 2-Leads, Body 5,10x2,67mm, IPC Medium Density)
pins: 1 K, 2 A

## SS34
designator D?
Schottky Rectifier
footprint DO-214 (Molded Diode, 2-Leads, Body 5,10x2,67mm, IPC Medium Density)
pins: 1 K, 2 A

## SS8550
designator Q?
PNP Transistor; Published: 8-Jun-2000; LatestRevisionDate: 17-Jul-2002; LatestRevisionNote: Re-released for DXP Platform.; PackageReference: TO-226-AA; Publisher: Altium Limited; PackageDescription: TO, Flat Index; 3 In-Line, Axial Leads; Body Dia. 4.8mm; Leads 0.55 x 0.51 mm (max); Code_JEDEC: TO-226-AA
footprint TO-92A (TO, Flat Index; 3 In-Line, Axial Leads; Body Dia. 4.5mm; Leads 0.51 x 0.48 mm (max)); pin to pad 1>3 3>1
footprint TO-92bent; pin to pad 1>3 3>1
footprint SOT23_N (SOT23, 3-Leads, Body 2.9x1.3 mm, Pitch 0.95 mm, IPC Medium Density); pin to pad 1>3 2>1 3>2
pins: 1 C, 2 B, 3 E

## STM32F030F4P6
designator U?
ARM Cortex-M0 32-bit MCU, 16 KB Flash, 4 KB Internal RAM, 15 I/Os, 20-Pin TSSOP, -40 to 85 degC, Tape and Reel; Internal RAM Size (kB): 4; Supply Voltage(Vcc) min (V): 2.4; I/Os (High Current): 15; FLASH Size (Prog) (kB): 16; Operating Frequency(F) (Processor speed) (MHz): 48; DatasheetVersion: Rev. 2; Core: ARM Cortex-M0; Package Description: 20-Pin Thin Shrink Small Outline Package, Body 6.5 x 4.4 mm, Pitch 0.65 mm; ComponentLink2Description: Datasheet; Mounting Technology: Surface Mount; Packing: Tape and Reel; Package Reference: TSSOP20; ComponentLink2URL: http://www.st.com/st-web-ui/static/active/en/resource/technical/document/datasheet/DM00088500.pdf; ComponentLink1Description: Manufacturer URL; ComponentLink1URL: http://www.st.com/
footprint STM-TSSOP20_N (SOP, 20-Leads, Body 6.6x4.5mm, Pitch 0.65mm, IPC Medium Density)
pins: 1 BOOT0 (in) "Boot memory selection", 2 PF0-OSC_IN(PF0) (io) "PF0/I2C1_SDA,OSC_IN", 3 PF1-OSC_OUT(PF1) (io) "PF1/I2C1_SCL,OSC_OUT", 4 NRST (io) "Device reset input/internal reset output(active low)", 5 VDDA (power) "Analog power supply", 6 PA0 (io) "PA0/USART1_CTS,USART2_CTS,USART4_TX/ADC_IN0,RTC_TAMP2,WKUP1", 7 PA1 (io) "PA1/USART1_RTS,USART2_RTS,EVENTOUT,USART4_RX/ADC_IN1", 8 PA2 (io) "PA2/USART1_TX,USART2_TX,TIM15_CH1/ADC_IN2", 9 PA3 (io) "PA3/USART1_RX,USART2_RX,TIM15_CH2/ADC_IN3", 10 PA4 (io) "PA4/SPI1_NSS,USART1_CK,USART2_CK,TIM14_CH1,USART6_TX/ADC_IN4", 11 PA5 (io) "PA5/SPI1_SCK,USART6_RX/ADC_IN5", 12 PA6 (io) "PA6/SPI1_MISO,TIM3_CH1,TIM1_BKIN,TIM16_CH1,EVENTOUT,USART3_CTS/ADC_IN6", 13 PA7 (io) "PA7/SPI1_MOSI,TIM3_CH2,TIM14_CH1,TIM1_CH1N,TIM17_CH1,EVENTOUT/ADC_IN7", 14 PB1 (io) "PB1/TIM3_CH4,TIM14_CH1,TIM1_CH3N,USART3_RTS/ADC_IN9", 15 VSS (power) "Ground", 16 VDD (power) "Digital power supply", 17 PA9 (io) "PA9/USART1_TX,TIM1_CH2,TIM15_BKIN/I2C1_SCL", 18 PA10 (io) "PA10/USART1_RX,TIM1_CH3,TIM17_BKIN,I2C1_SDA", 19 PA13(SWDIO) (io) "PA13/IR_OUT,SWDIO", 20 PA14(SWCLK) (io) "PA14/USART1_TX,USART2_TX,SWCLK"

## STM32F103C8T6
designator U?, comment STM32F103C8T6TR
ARM Cortex-M3 32-bit MCU, 64 KB Flash, 20 KB Internal RAM, 37 I/Os, 48-pin LQFP, -40 to 85 degC, Tape and Reel; A/D Converter: 2x12-bit (10 Channel); Internal RAM Size (kB): 20; Supply Voltage(Vcc) min (V): 2; I/Os (High Current): 37; FLASH Size (Prog) (kB): 64; Operating Frequency(F) (Processor speed) (MHz): 72; Packing: Tape and Reel; PackageReference: LQFP48; ComponentLink2Description: Datasheet; Core: ARM Cortex-M3; ComponentLink3URL: http://www.st.com/st-web-ui/static/active/en/resource/technical/document/datasheet/DM00058181.pdf; ComponentLink1Description: Manufacturer URL; ComponentLink3Description: Package Specification; PartNumber: STM32F103C8T6TR; PackageVersion: Rev. 6, 06/2013; ComponentLink2URL: http://www.st.com/st-web-ui/static/active/en/resource/technical/document/datasheet/CD00161566.pdf; PackageDescription: 48-Pin Low Profile Quad Flat Package, 7 x 7 mm Body, 0.5 mm Pitch; Mounting Technology: Surface Mount; DatasheetVersion: Rev. 16; ComponentLink1URL: http://www.st.com/web/en/home.html
footprint STM-LQFP48_L (QFP, 48-Leads, Body 7x7mm, Pitch 0.5mm, IPC High Density)
footprint STM-LQFP48_N (QFP, 48-Leads, Body 7x7mm, Pitch 0.5mm, IPC Medium Density)
footprint STM-LQFP48_M (QFP, 48-Leads, Body 7x7mm, Pitch 0.5mm, IPC Low Density)
part A pins: 2 PC13-TAMPER-RTC (io) "PC13-TAMPER-RTC/PC13/TAMPER-RTC", 3 PC14-OSC32_IN (io) "PC14-OSC32_IN/PC14/OSC32_IN", 4 PC15-OSC32_OUT (io) "PC15-OSC32_OUT/PC15/OSC32_OUT", 5 PD0-OSC_IN (io) "PD0/OSC_IN", 6 PD1-OSC_OUT (io) "PD1/OSC_OUT", 7 NRST (io), 10 PA0-WKUP (io) "PA0-WKUP/PA0/WKUP/USART2_CTS/ADC12_IN0/TIM2_CH1_ETR", 11 PA1 (io) "PA1/USART2_RTS/ADC12_IN1/TIM2_CH2", 12 PA2 (io) "PA2/USART2_TX/ADC12_IN2/TIM2_CH3", 13 PA3 (io) "PA3/USART2_RX/ADC12_IN3/TIM2_CH4", 14 PA4 (io) "PA4/SPI1_NSS/USART2_CK/ADC12_IN4", 15 PA5 (io) "PA5/SPI1_SCK/ADC12_IN5", 16 PA6 (io) "PA6/SPI1_MISO/ADC12_IN6/TIM3_CH1/TIM1_BKIN", 17 PA7 (io) "PA7/SPI1_MOSI/ADC12_IN7/TIM3_CH2/TIM1_CH1N", 18 PB0 (io) "PB0/ADC12_IN8/TIM3_CH3/TIM1_CH2N", 19 PB1 (io) "PB1/ADC12_IN9/TIM3_CH4/TIM1_CH3N", 20 PB2 (io) "PB2/BOOT1", 21 PB10 (io) "PB10/I2C2_SCL/USART3_TX/TIM2_CH3", 22 PB11 (io) "PB11/I2C2_SDA/USART3_RX/TIM2_CH4", 25 PB12 (io) "PB12/SPI2_NSS/I2C2_SMBAl/USART3_CK/TIM1_BKIN", 26 PB13 (io) "PB13/SPI2_SCK/USART3_CTS/TIM1_CH1N", 27 PB14 (io) "PB14/SPI2_MISO/USART3_RTS/TIM1_CH2N", 28 PB15 (io) "PB15/SPI2_MOSI/TIM1_CH3N", 29 PA8 (io) "PA8/USART1_CK/TIM1_CH1/MCO", 30 PA9 (io) "PA9/USART1_TX/TIM1_CH2", 31 PA10 (io) "PA10/USART1_RX/TIM1_CH3", 32 PA11 (io) "PA11/USART1_CTS/CANRX/USBDM/TIM1_CH4", 33 PA12 (io) "PA12/USART1_RTS/CANTX/USBDP/TIM1_ETR", 34 PA13 (io) "PA13/JTMS/SWDIO", 37 PA14 (io) "PA14/JTCK/SWCLK", 38 PA15 (io) "PA15/JTDI/TIM2_CH1_ETR/SPI1_NSS", 39 PB3 (io) "PB3/JTDO/TIM2_CH2/TRACESWO/SPI1_SCK", 40 PB4 (io) "PB4/NJTRST/TIM3_CH1/SPI1_MISO", 41 PB5 (io) "PB5/I2C1_SMBAI/TIM3_CH2/SPI1_MOSI", 42 PB6 (io) "PB6/I2C1_SCL/TIM4_CH1/USART1_TX", 43 PB7 (io) "PB7/I2C1_SDA/TIM4_CH2/USART1_RX", 44 BOOT0 (in), 45 PB8 (io) "PB8/TIM4_CH3/I2C1_SCL/CANRX", 46 PB9 (io) "PB9/TIM4_CH4/I2C1_SDA/CANTX"
part B pins: 1 VBAT (power), 8 VSSA (power), 9 VDDA (power), 23 VSS_1 (power), 24 VDD_1 (power), 35 VSS_2 (power), 36 VDD_2 (power), 47 VSS_3 (power), 48 VDD_3 (power)

## STM32F103X8
designator U?, comment MC-ARM-STM32F103X8_B-SQ48
footprint STM-LQFP48_L (QFP, 48-Leads, Body 7x7mm, Pitch 0.5mm, IPC High Density)
part A pins: 2 PC13-TAMPER-RTC/PC13/TAMPER-RTC (io), 3 PC14-OSC32_IN/PC14/OSC32_IN (io), 4 PC15-OSC32_OUT/PC15/OSC32_OUT (io), 5 PD0/OSC_IN (io), 6 PD1/OSC_OUT (io), 7 NRST (io), 10 PA0-WKUP/PA0/WKUP/USART2_CTS/ADC12_IN0/TIM2_CH1_ETR (io), 11 PA1/USART2_RTS/ADC12_IN1/TIM2_CH2 (io), 12 PA2/USART2_TX/ADC12_IN2/TIM2_CH3 (io), 13 PA3/USART2_RX/ADC12_IN3/TIM2_CH4 (io), 14 PA4/SPI1_NSS/USART2_CK/ADC12_IN4 (io), 15 PA5/SPI1_SCK/ADC12_IN5 (io), 16 PA6/SPI1_MISO/ADC12_IN6/TIM3_CH1/TIM1_BKIN (io), 17 PA7/SPI1_MOSI/ADC12_IN7/TIM3_CH2/TIM1_CH1N (io), 18 PB0/ADC12_IN8/TIM3_CH3/TIM1_CH2N (io), 19 PB1/ADC12_IN9/TIM3_CH4/TIM1_CH3N (io), 20 PB2/BOOT1 (io), 21 PB10/I2C2_SCL/USART3_TX/TIM2_CH3 (io), 22 PB11/I2C2_SDA/USART3_RX/TIM2_CH4 (io), 25 PB12/SPI2_NSS/I2C2_SMBAl/USART3_CK/TIM1_BKIN (io), 26 PB13/SPI2_SCK/USART3_CTS/TIM1_CH1N (io), 27 PB14/SPI2_MISO/USART3_RTS/TIM1_CH2N (io), 28 PB15/SPI2_MOSI/TIM1_CH3N (io), 29 PA8/USART1_CK/TIM1_CH1/MCO (io), 30 PA9/USART1_TX/TIM1_CH2 (io), 31 PA10/USART1_RX/TIM1_CH3 (io), 32 PA11/USART1_CTS/CANRX/USBDM/TIM1_CH4 (io), 33 PA12/USART1_RTS/CANTX/USBDP/TIM1_ETR (io), 34 PA13/JTMS/SWDIO (io), 37 PA14/JTCK/SWCLK (io), 38 PA15/JTDI/TIM2_CH1_ETR/SPI1_NSS (io), 39 PB3/JTDO/TIM2_CH2/TRACESWO/SPI1_SCK (io), 40 PB4/NJTRST/TIM3_CH1/SPI1_MISO (io), 41 PB5/I2C1_SMBAI/TIM3_CH2/SPI1_MOSI (io), 42 PB6/I2C1_SCL/TIM4_CH1/USART1_TX (io), 43 PB7/I2C1_SDA/TIM4_CH2/USART1_RX (io), 44 BOOT0 (in), 45 PB8/TIM4_CH3/I2C1_SCL/CANRX (io), 46 PB9/TIM4_CH4/I2C1_SDA/CANTX (io)
part B pins: 1 VBAT (power), 8 VSSA (power), 9 VDDA (power), 23 VSS_1 (power), 24 VDD_1 (power), 35 VSS_2 (power), 36 VDD_2 (power), 47 VSS_3 (power), 48 VDD_3 (power)

## Terminal_2
designator J?, comment KF120-02P-14
Euro Terminal Block, 6 A, 150 V, -40 to 105 degC, Pitch 2.54 mm, 1x2 Position, Height 8.6 mm, Tail Length 3.3 mm; Manufacturer: Cixi KaiFeng; Rated Current: 6 A; Contact: Brass; Insulation Resistance: 5000 MOhm / 1000 V; Rated Voltage: 150 V; No. of Pole: 2; Withstanding Voltage: AC 1500 V / 1 Min; Contact Resistance: 20 mOhm; Pitch: Single Pitch; PackageReference: KF120-2; Color: Green; Mounting Technology: Through Hole; PartNumber: KF120-02P-14; PackageDescription: Terminal Block, Pitch 2.54 mm, 1 x 2 Position, Height 8.6 mm, Tail Length 3.3 mm; ComponentLink2Description: Datasheet; ComponentLink1Description: Manufacturer URL; ComponentLink2URL: http://www.nb-kaifeng.com/upload/editor/ext_pdf/201305290533202245.pdf; Temp. Range: -40 to 105 degC; ComponentLink1URL: http://www.nb-kaifeng.com/
footprint CXKF-KF120-2_V (Terminal Block, Pitch 2.54mm, 1x2 Position, Height 8.6mm, Tail Length 3.3mm)
footprint DG301-5.0-02P-1X
footprint PHOE-1729128-2_V (Receptacle, 2-Leads, Body 8.1x10.16mm, Pitch 5.08mm)
footprint KF350-3.5-02P
pins: 1, 2

## Terminal_3
designator J?, comment KF120-03P-14
Euro Terminal Block, 6 A, 150 V, -40 to 105 degC, Pitch 2.54 mm, 1x3 Position, Height 8.6 mm, Tail Length 3.3 mm; Manufacturer: Cixi KaiFeng; Insulation Resistance: 5000 mOhm / 1000 V; Pitch: Single Pitch; Rated Current: 6 A; Contact: Brass; Contact Resistance: 20 mOhm; No. of Pole: 3; Rated Voltage: 150 V; Withstanding Voltage: AC 1500 V / 1 Min; DatasheetVersion: Dec-13; ComponentLink3URL: http://www.nb-kaifeng.com/upload/editor/ext_pdf/201305290533202245.pdf; ComponentLink1Description: Manufacturer URL; ComponentLink2URL: http://www.nb-kaifeng.com/upload/editor/ext_pdf/201305290533107785.pdf; ComponentLink3Description: Package Specification; Color: Green; ComponentLink1URL: http://www.nb-kaifeng.com/; ComponentLink2Description: Datasheet; PackageVersion: Dec-13; Temp. Range: -40 to 105 degC; Mounting Technology: Through Hole; PackageDescription: Terminal Block, Pitch 2.54 mm, 1 x 3 Position, Height 8.6 mm, Tail Length 3.3 mm; PartNumber: KF120-03P-14; PackageReference: CXKF-KF120-3
footprint CXKF-KF120-3_V (Terminal Block, Pitch 2.54mm, 1x3 Position, Height 8.6mm, Tail Length 3.3mm)
footprint DG301-5.0-03P-1X
footprint KF350-3.5-03P
pins: 1, 2, 3

## Terminal_4
designator J?, comment KF120-04P-14
Euro Terminal Block, 6 A, 150 V, -40 to 105 degC, Pitch 2.54 mm, 1x4 Position, Height 8.6 mm, Tail Length 3.3 mm; Manufacturer: Cixi KaiFeng; Contact Resistance: 20 mOhm; Insulation Resistance: 5000 MOhm / 1000 V; Rated Voltage: 150 V; Contact: Brass; Pitch: Single Pitch; Withstanding Voltage: AC 1500 V / 1 Min; Rated Current: 6 A; No. of Pole: 4; Color: Green; ComponentLink2Description: Datasheet; Temp. Range: -40 to 105 degC; ComponentLink1URL: http://www.nb-kaifeng.com/; DatasheetVersion: Feb-14; ComponentLink2URL: http://www.nb-kaifeng.com/upload/editor/ext_pdf/201305290533202245.pdf; Mounting Technology: Through Hole; PartNumber: KF120-04P-14; PackageDescription: Terminal Block, Pitch 2.54 mm, 1 x 4 Position, Height 8.6 mm, Tail Length 3.3 mm; PackageReference: CXKF-KF120-4; ComponentLink1Description: Manufacturer URL
footprint CXKF-KF120-4_V (Terminal Block, Pitch 2.54mm, 1x4 Position, Height 8.6mm, Tail Length 3.3mm)
footprint DG301-5.0-04P-1X
footprint KF350-3.5-04P
pins: 1, 2, 3, 4

## Terminal_5
designator J?, comment KF120-05P-14
Euro Terminal Block, 6 A, 150 V, -40 to 105 degC, Pitch 2.54 mm, 1x5; PartNumber: KF120-06P-14; Manufacturer: Cixi KaiFeng; No. of Pole: 6; Contact: Brass; Withstanding Voltage: AC 1500 V / 1 Min; Contact Resistance: 20 mOhm; Pitch: Single Pitch; Rated Current: 6 A; Insulation Resistance: 5000 MOhm / 1000 V; Rated Voltage: 150 V; Mounting Technology: Through Hole; ComponentLink2Description: Datasheet; PackageReference: CXKF-KF120-6; DatasheetVersion: Feb-14; Temp. Range: -40 to 105 degC; ComponentLink1Description: Manufacturer URL; ComponentLink1URL: http://www.nb-kaifeng.com/; PackageDescription: Terminal Block, Pitch 2.54 mm, 1 x 6 Position, Height 8.6 mm, Tail Length 3.3 mm; Color: Green; ComponentLink2URL: http://www.nb-kaifeng.com/upload/editor/ext_pdf/201305290533202245.pdf
footprint DG301-5.0-05P-1X
footprint KF350-3.5-05P
pins: 1, 2, 3, 4, 5, 6

## Terminal_6
designator J?, comment KF120-06P-14
Euro Terminal Block, 6 A, 150 V, -40 to 105 degC, Pitch 2.54 mm, 1x6 Position, Height 8.6 mm, Tail Length 3.3 mm; Manufacturer: Cixi KaiFeng; No. of Pole: 6; Contact: Brass; Withstanding Voltage: AC 1500 V / 1 Min; Contact Resistance: 20 mOhm; Pitch: Single Pitch; Rated Current: 6 A; Insulation Resistance: 5000 MOhm / 1000 V; Rated Voltage: 150 V; Mounting Technology: Through Hole; PartNumber: KF120-06P-14; ComponentLink2Description: Datasheet; PackageReference: CXKF-KF120-6; DatasheetVersion: Feb-14; Temp. Range: -40 to 105 degC; ComponentLink1Description: Manufacturer URL; ComponentLink1URL: http://www.nb-kaifeng.com/; PackageDescription: Terminal Block, Pitch 2.54 mm, 1 x 6 Position, Height 8.6 mm, Tail Length 3.3 mm; Color: Green; ComponentLink2URL: http://www.nb-kaifeng.com/upload/editor/ext_pdf/201305290533202245.pdf
footprint CXKF-KF120-6_V (Terminal Block, Pitch 2.54mm, 1x6 Position, Height 8.6mm, Tail Length 3.3mm)
footprint DG301-5.0-06P-1X
footprint KF350-3.5-06P
pins: 1, 2, 3, 4, 5, 6

## TL431
designator U?
Adjustable Precision Shunt Regulator, 34 ppm / degC, 100 mA, -40 to 125 degC, 3-pin SOT-23 (DBZ), Green (RoHS & no Sb/Br); Manufacturer: Texas Instruments; PartNumber: TL431AQDBZT; VO Adj(Min)(V): 2.495; Min Iz for Regulation(uA): 600; Initial Accuracy @ 25/deg C(%): 1; Temp Coeff(Typ)(ppm/ degree C): 34; VO Adj(Max)(V): 36; Temp Coeff(Max)(ppm/ degree C): 92; Iout/Iz(Max)(mA): 100; Rating: Catalog; SubFamily: Shunt Voltage Reference; PackageDescription: 3-Pin Plastic Small Outline, Body 2.92 x 1.3 mm, Pitch 0.95 mm; ComponentLink2Description: Datasheet; Mounting Technology: Surface Mount; DatasheetVersion: SLVS543M; ComponentLink3Description: Package Specification; PackageVersion: 4203227/B; ComponentLink4Description: URL Link1; ComponentLink1Description: Manufacturer URL; PackageReference: DBZ0003A; Code_JEDEC: TO-236; ComponentLink2URL: http://www.ti.com/general/docs/lit/getliterature.tsp?genericPartNumber=TL431A&fileType=pdf; ComponentLink4URL: Samples URL:http://www.ti.com/product/tl431a; ComponentLink3URL: http://www.ti.com/litv/pdf/mpds108a; ComponentLink1URL: http://www.ti.com/; Eco-Plan: Green (RoHS & no Sb/Br)
footprint SOT23_L (SOT23, 3-Leads, Body 2.9x1.3 mm, Pitch 0.95 mm, IPC High Density)
footprint SOT23_M (SOT23, 3-Leads, Body 2.9x1.3 mm, Pitch 0.95 mm, IPC Low Density)
footprint SOT23_N (SOT23, 3-Leads, Body 2.9x1.3 mm, Pitch 0.95 mm, IPC Medium Density)
footprint TO-92A (TO, Flat Index; 3 In-Line, Axial Leads; Body Dia. 4.5mm; Leads 0.51 x 0.48 mm (max)); pin to pad 1>3 2>1 3>2
pins: 1 CATHODE, 2 REF (in), 3 ANODE

## ULN2003A
designator U?, comment ULN2003ADR
High-Voltage, High-Current Darlington Transistor Array, 0.5 A, 50 V, -20 to 70 degC, 16-Pin SOIC (D), Green (RoHS & no Sb/Br), Tape and Reel; Manufacturer: TexasInstruments; Peak DC Collector Current: 0.5A; Package Version: 4040047-6/M, 06/2011; Maximum Collector Emitter Voltage: 50V; Configuration: Array7; Maximum Collector Emitter Saturation Voltage: 1.1@100mA|1.3@200mA|1.6@350mAV; Rad Hard: No; Packaging: Tape&Reel; Datasheet URL: http://www.ti.com/general/docs/lit/getliterature.tsp?genericPartNumber=uln2003a&fileType=pdf; Package Reference: D16; Category: DarlingtonBJT; Datasheet Version: Rev. O, 01/2016; Manufacturer URL: http://www.ti.com/; Type: NPN; Package Description: 16-Pin Plastic Small Outline, Body 9.9 x 3.9 mm, Pitch 1.27 mm; Mounting: SurfaceMount; Package: 16SOIC; Package URL: http://www.ti.com/lit/ml/mpds178g/mpds178g.pdf
footprint SO-16_L (SOIC, 16-Leads, Body 9.9x3.9mm, Pitch 1.27mm, IPC High Density)
footprint SO-16_N (SOIC, 16-Leads, Body 9.9x3.9mm, Pitch 1.27mm, IPC Medium Density)
footprint SO-16_M (SOIC, 16-Leads, Body 9.9x3.9mm, Pitch 1.27mm, IPC Low Density)
pins: 1 1B (in) "Channel 1 Darlington base input", 2 2B (in) "Channel 2 Darlington collector output", 3 3B (in) "Channel 3 Darlington collector output", 4 4B (in) "Channel 4 Darlington collector output", 5 5B (in) "Channel 5 Darlington collector output", 6 6B (in) "Channel 6 Darlington collector output", 7 7B (in) "Channel 7 Darlington collector output", 8 E "Common emitter shared by all channels (typically tied to ground)", 9 COM "Common cathode node for flyback diodes (required for inductive loads)", 10 7C (out) "Channel 7 Darlington base input", 11 6C (out) "Channel 6 Darlington base input", 12 5C (out) "Channel 5 Darlington base input", 13 4C (out) "Channel 4 Darlington base input", 14 3C (out) "Channel 3 Darlington base input", 15 2C (out) "Channel 2 Darlington base input", 16 1C (out) "Channel 1 Darlington collector output"

## Varistor
designator R?
Var; Val: *
footprint Varistor - 5mm
pins: 1, 2

## WS2812B
designator U?
Intelligent Control LED Integrated Light Source, 3.5 to 5.3 V, -25 to 80 degC, 4-Pin SMD, RoHS, Bulk; Case\Package: Radial; Shielding: Unshielded; Current Rating: 240 mA; Tolerance: 10%; Mount: Through Hole; Max Operating Temperature: 125 degC; Radiation Hardening: No; Length: 12.2 mm; Min Operating Temperature: -55 degC; ComponentLink1URL: https://www.adafruit.com/; Packaging: Bulk; Lead Pitch: 5 mm; RoHSCompliant: true; Pins: 2; Package Quantity: 200; ComponentLink2URL: https://cdn-shop.adafruit.com/datasheets/WS2812B.pdf; ComponentLink2Description: Datasheet; PackageDescription: 4-Pin Surface Mount Device, Body 5 x 5 mm, Pitch 3.3 mm; PackageReference: WS2812B; Height: 12.2 mm; REACH SVHC: No SVHC; ComponentLink1Description: Manufacturer URL; DatasheetVersion: May-13
footprint WS2812B (SMD, 4-Leads, Body 5x5mm, Pitch 3.3mm)
pins: 1 VDD (power) "Power supply LED", 2 DOUT (out) "Control data signal output", 3 VSS (power) "Ground", 4 DIN (in) "Control data signal input"

## XY-017
designator MOD?
XY-017 RS-485 to ttl module
footprint XY-017
pins: 1 VCC, 2 TxD, 3 RxD, 4 GND, 5 A+, 6 B+, 7 Ground